# Altium footprint library MLACHP_P.PCBLIB: 129 footprints (part 9 of 9)
Each footprint in its own frame and in the unit in brackets; x right, y up, seen from the top. Pads: shape width x height; smd on the part's side, far side on the other; paste and mask are expansions set on the pad; w line width, h text height; cw(c..) or ccw(c..) is an arc to the next point about the centre after c.
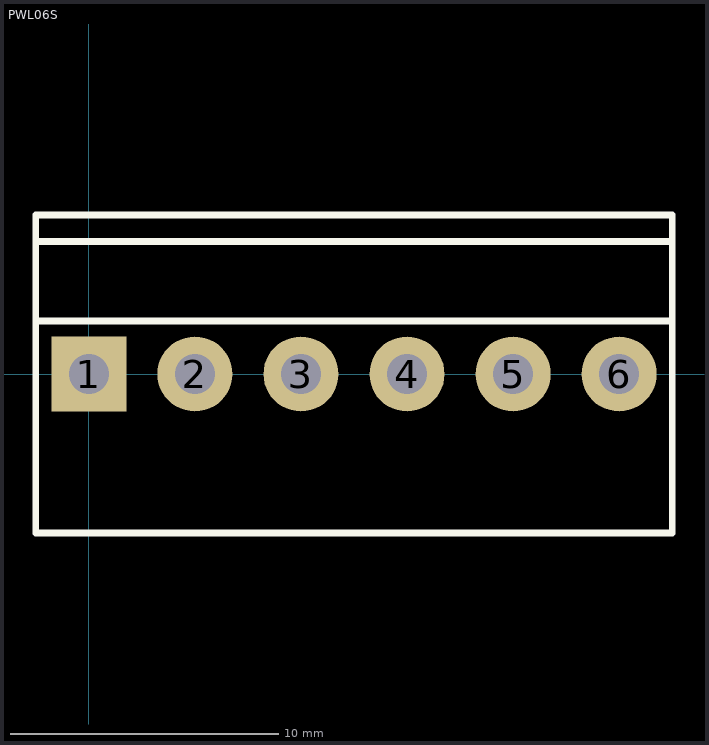
[diagram p8: the footprint, top view; thin cyan lines are the x and y axes]

## PWL06S [mm]
pads (6):
  rect 2.8x2.8 hole 1.5: 1(0,0)
  round 2.8 hole 1.5: 2(3.96,0) 3(7.92,0) 4(11.88,0) 5(15.84,0) 6(19.8,0)
TopOverlay:
  lines w0.254: -1.98,1.98 21.78,1.98 ; -1.98,4.95 21.78,4.95 ; -1.98,-5.94 21.78,-5.94 21.78,5.94 -1.98,5.94 -1.98,-5.94
3D body: height 12, standoff -3.5, extent 19.2,-0.6 20.4,0.6
3D body: height 12, standoff -3.5, extent 15.24,-0.6 16.44,0.6
3D body: height 12, standoff -3.5, extent 11.28,-0.6 12.48,0.6
3D body: height 12, standoff -3.5, extent 7.32,-0.6 8.52,0.6
3D body: height 12, standoff -3.5, extent 3.36,-0.6 4.56,0.6
3D body: height 3.3, standoff 0, extent -1.98,-5.94 21.78,5.94
3D body: height 12.5, standoff 0, extent -1.98,2 21.78,5.94
3D body: height 12, standoff -3.5, extent -0.6,-0.6 0.6,0.6